# EAGLE library part ZX62D-B-5PA8_30_ (library ZX62D-B-5PA8_30_)
USB - micro B USB 2.0 Receptacle Connector 5 Position Surface Mount, Right Angle; Through Hole Source: Datasheet <https://www.hirose.com/en/product/document?clcode=CL0242-0056-3-30&productname=ZX62D-B-5PA8(30)&series=ZX&documenttype=2DDrawing&lang=en&documentid=0001147958>
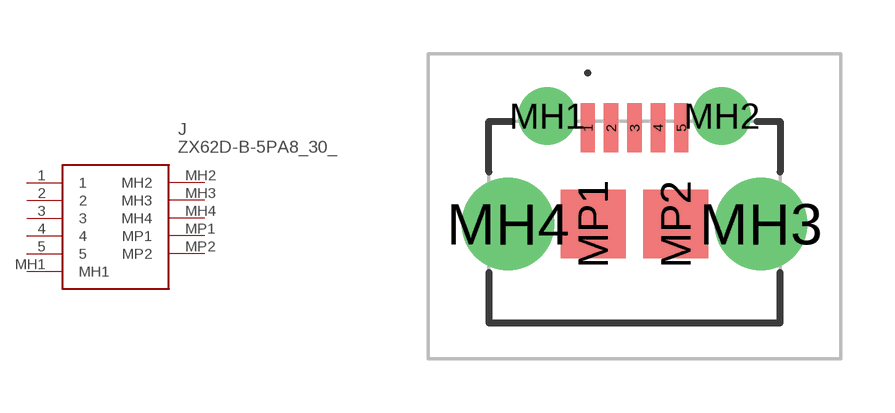
[diagram p0: symbol with the pads of ZX62DB5PA830; footprint ZX62DB5PA830]

Designator prefix J

## ZX62D-B-5PA8_30_ (Description: USB - micro B USB 2.0 Receptacle Connector 5 Position Surface Mount, Right Angle; Through Hole; Height: 3mm; Manufacturer_Name: Hirose; Manufacturer_Part_Number: ZX62D-B-5PA8(30); Mouser_Part_Number: 798-ZX62D-B-5PA830; Mouser_Price-Stock: https://www.mouser.co.uk/ProductDetail/Hirose-Connector/ZX62D-B-5PA830?qs=1Nn7v2rJFSJs6IftS%252BmZAw%3D%3D)  [ZX62DB5PA830]
1  1
2  2
3  3
4  4
5  5
MH1  MH1
MH2  MH2
MH3  MH3
MH4  MH4
MP1  MP1
MP2  MP2

## Footprint ZX62DB5PA830 (pad centres in mm)
ZX62D-B-5PA8(30)-7
smd 0.4 x 1.35: 1 -1.3,2.625; 2 -0.65,2.625; 3 0,2.625; 4 0.65,2.625; 5 1.3,2.625
drill 1.07 pad 1.45: MH1 -2.425,2.95; MH2 2.425,2.95
drill 1.71 pad 2.425: MH3 3.512,-0.05; MH4 -3.512,-0.05
smd 1.8 x 1.9: MP1 -1.15,-0.05; MP2 1.15,-0.05